# Altium footprint library NewSpeedRadar_Board.PcbLib: 49 footprints (part 2 of 4)
Each footprint in its own frame and in the unit in brackets; x right, y up, seen from the top. Pads: shape width x height; smd on the part's side, far side on the other; paste and mask are expansions set on the pad; w line width, h text height; cw(c..) or ccw(c..) is an arc to the next point about the centre after c.
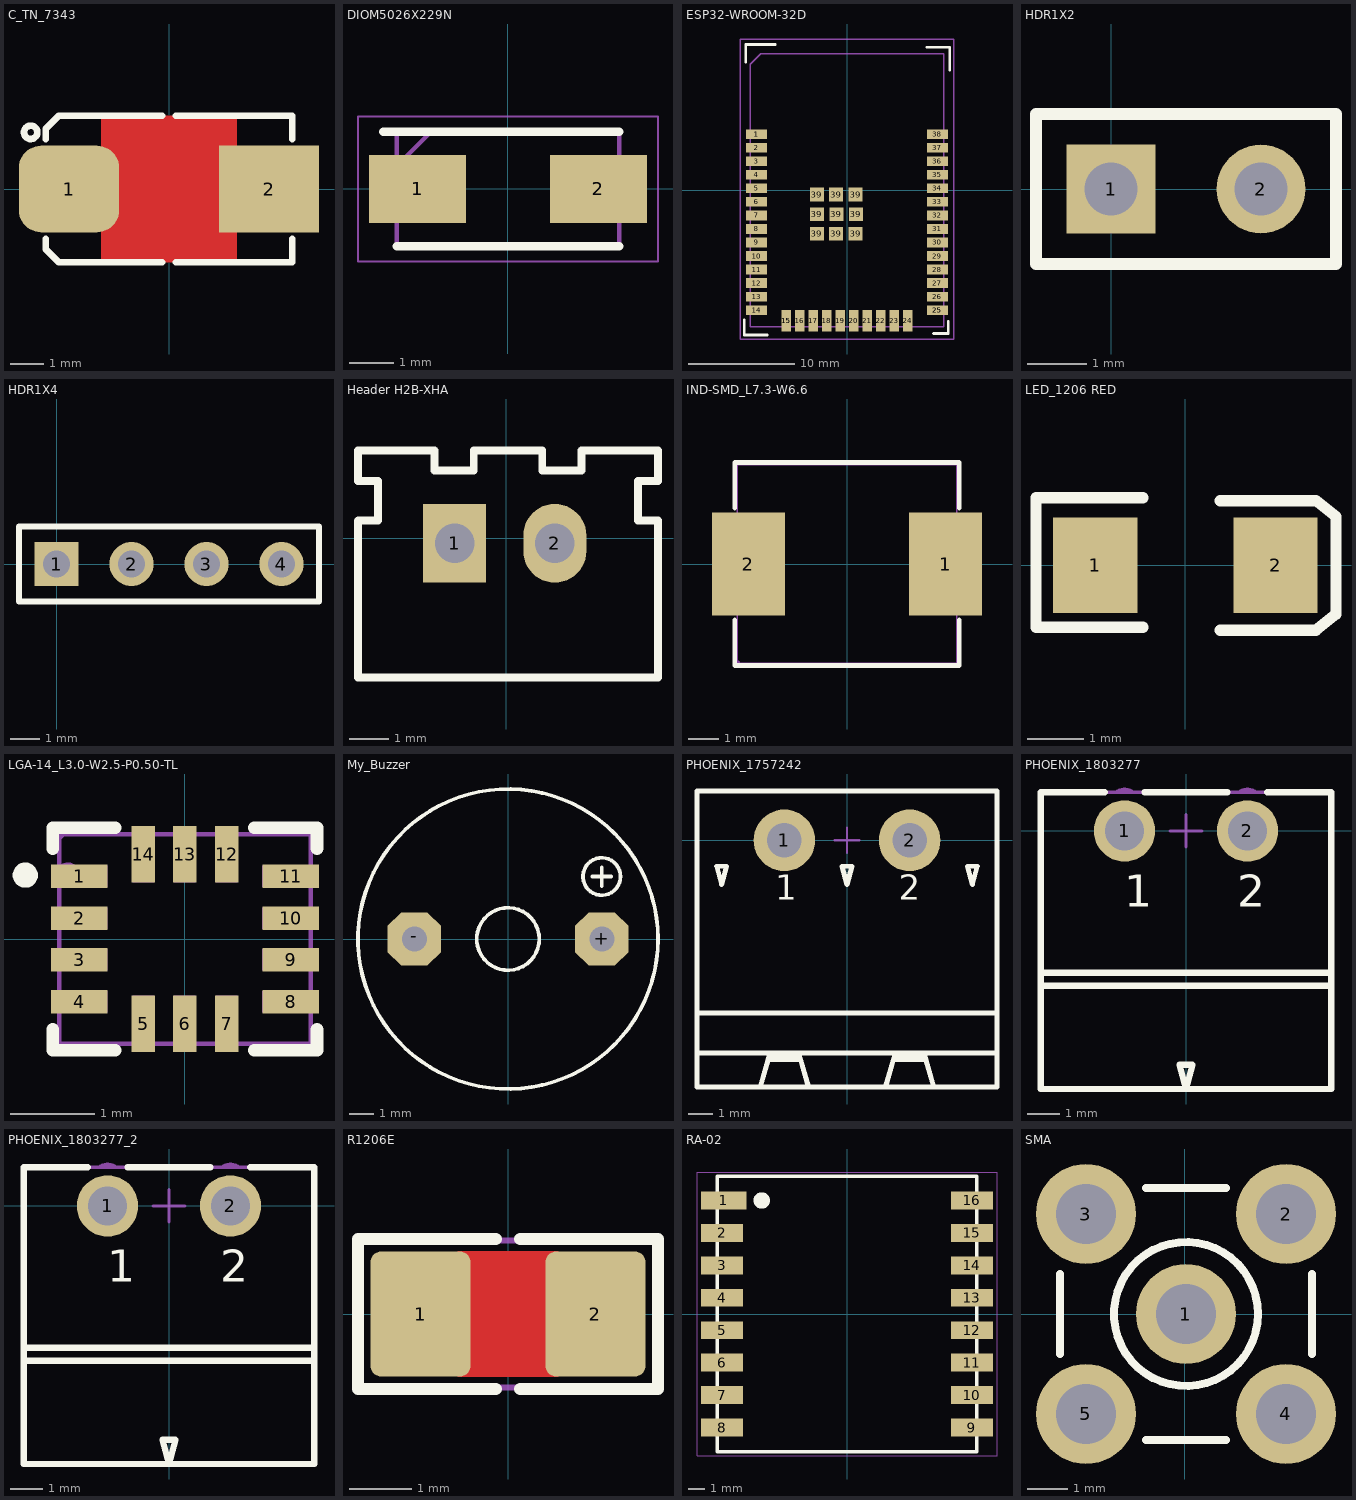
[diagram p1: the footprints below, top view; thin cyan lines are the x and y axes]

## C_TN_7343 [mm] "CAPACITOR, TAN D, TAN E, TAN Y, TAN X, 7343P, 7.3X4.3mm"
height 4.3
pads (2):
  rrect50% 3x2.6 smd: 1(-3,0)
  rect 3x2.6 smd: 2(3,0)
Top Layer:
  pour cut-out: -2.032,2.2 -2.032,-2.2 2.032,-2.2 2.032,2.2
Top Overlay:
  circle w0.2: c-4.15,1.7 r0.2
  lines w0.2: -3.7,-1.5 -3.7,-1.8 -3.3,-2.2 -0.2,-2.2 ; -3.7,1.5 -3.7,1.8 -3.3,2.2 -0.2,2.2 ; 0.2,-2.2 3.7,-2.2 3.7,-1.5 ; 0.2,2.2 3.7,2.2 3.7,1.5
3D body "User Library-AVX_E_CASE.step": height 4.2, standoff 0, extent -3.7,-2.225 3.7,2.225

## DIOM5026X229N [mm]
height 1.1
pads (2):
  rect 2.2x1.55 smd: 1(-2.05,0) 2(2.05,0)
Top Overlay:
  lines w0.2: -2.825,1.298 2.52,1.298 ; -2.52,-1.298 2.52,-1.298
Mechanical 13:
  lines w0.1: -2.52,0.522 -1.745,1.298 ; -2.52,-1.298 -2.52,1.298 2.52,1.298 2.52,-1.298 -2.52,-1.298
Mechanical 15:
  lines w0.05: -3.4,-1.645 -3.4,1.645 3.4,1.645 3.4,-1.645 -3.4,-1.645
3D body "SMAJ24A.stp": height 2.29, standoff 0, extent -2.52,-1.298 2.52,1.298

## ESP32-WROOM-32D [mm]
height 3.2
pads (50):
  rect 2x0.9 smd: 1(-8.5,5.26) 1(-8.5,5.26) 2(-8.5,3.99) 3(-8.5,2.72) 4(-8.5,1.45) 5(-8.5,0.18) 6(-8.5,-1.09) 7(-8.5,-2.36) 8(-8.5,-3.63) 9(-8.5,-4.9) 10(-8.5,-6.17) 11(-8.5,-7.44) 12(-8.5,-8.71) 13(-8.5,-9.98) 14(-8.5,-11.25) 25(8.5,-11.25) 25(8.5,-11.25) 26(8.5,-9.98) 27(8.5,-8.71) 28(8.5,-7.44) 29(8.5,-6.17) 30(8.5,-4.9) 31(8.5,-3.63) 32(8.5,-2.36) 33(8.5,-1.09) 34(8.5,0.18) 35(8.5,1.45) 36(8.5,2.72) 37(8.5,3.99) 38(8.5,5.26)
  rect 0.9x2 smd: 15(-5.715,-12.25) 15(-5.715,-12.25) 16(-4.445,-12.25) 17(-3.175,-12.25) 18(-1.905,-12.25) 19(-0.635,-12.25) 20(0.635,-12.25) 21(1.905,-12.25) 22(3.175,-12.25) 23(4.445,-12.25) 24(5.715,-12.25)
  rect 1.3x1.3 smd: 39(-2.835,-4.075) 39(-2.835,-2.24) 39(-2.835,-0.405) 39(-1.03,-4.083) 39(-1.03,-0.397) 39(-1,-2.24) 39(0.805,-4.083) 39(0.805,-0.397) 39(0.835,-2.24)
Top Overlay:
  lines w0.254: -9.652,-12.192 -9.652,-13.589 -7.493,-13.589 ; -9.525,12.065 -9.525,13.716 -6.731,13.716 ; 7.493,13.462 9.652,13.462 9.652,11.303 ; 8.128,-13.462 9.525,-13.462 9.525,-12.319
Top Courtyard:
  lines w0.12: -10.033,-1.984 -10.033,-0.407 ; -10.033,-1.984 -10.033,-2.264 -10.033,-4.401 -10.033,-11.449 -10.033,-13.97 -9.1,-13.97 -6.734,-13.97 -6.683,-13.97 -3.147,-13.97 4.08,-13.97 7.616,-13.97 7.667,-13.97 10.033,-13.97 10.033,-5.46 10.033,5.487 10.033,8.955 10.033,10.292 10.033,12.827 10.033,14.224 7.843,14.224 3.853,14.224 -2.92,14.224 -7.703,14.224 -9.619,14.224 -10.033,14.224 -10.033,12.7 -10.033,1.778 -10.033,0.889 -10.033,0.648 -10.033,-0.14 -10.033,-0.407 ; -10.033,-1.984 -10.033,-0.407
Top Assembly:
  lines w0.12: -9.1,-12.8 -9.1,11.43 -9.1,11.855 -8.128,12.827 9.1,12.827 9.1,-12.8 -9.1,-12.8
  text ".designator" at -4.227,1.168 h1
3D body "ESP-32 .step": height 2.61, standoff -0.1, extent -8.95,-12.7 8.95,12.7

## HDR1X2 [mm] "Connector; Header; 2 Position"
pads (2):
  rect 1.5x1.5 hole 0.9: 1(0,0)
  round 1.5 hole 0.9: 2(2.54,0)
Top Overlay:
  lines w0.2: -1.27,-1.27 -1.27,1.27 3.81,1.27 3.81,-1.27 -1.27,-1.27

## HDR1X4 [mm] "Connector; Header; 4 Position"
height 6.8
pads (4):
  rect 1.5x1.5 hole 0.9: 1(0,0)
  round 1.5 hole 0.9: 2(2.54,0) 3(5.08,0) 4(7.62,0)
Top Overlay:
  lines w0.2: -1.27,-1.27 -1.27,1.27 8.89,1.27 8.89,-1.27 -1.27,-1.27

## Header H2B-XHA [mm]
height 1.524
pads (2):
  rect 1.6x2 hole 1: 1(-1.305,-0.125)
  oval 1.6x2 hole 1: 2(1.235,-0.125)
Top Overlay:
  lines w0.2: -3.25,1.45 -3.755,1.45 -3.755,2.225 -1.82,2.225 -1.82,1.72 -0.82,1.72 -0.82,2.225 0.915,2.225 0.915,1.72 1.915,1.72 1.915,2.225 3.85,2.225 3.85,1.45 3.345,1.45 3.345,0.45 3.85,0.45 3.85,-3.525 -3.755,-3.525 -3.755,0.445 -3.75,0.45 -3.245,0.45 -3.245,1.45
3D body "User Library-XH_Right.STEP": height 7, standoff -3.5, extent -4,-3.65 0.05,2.35
3D body "User Library-XH_Left.STEP": height 7, standoff -3.5, extent 0.05,-3.65 4.1,2.35

## IND-SMD_L7.3-W6.6 [mm] "Chip Inductor, EIA 1008, Metric 2520, Body 2.60mm L X 2.00mm W X 1.00mm H, IPC Medium Density"
height 1
pads (2):
  rect 2.424x3.42 smd: 1(3.278,0) 2(-3.278,0)
Top Overlay:
  lines w0.152: -3.726,-1.862 -3.726,-3.376 3.726,-3.376 3.726,-1.862 ; -3.726,1.862 -3.726,3.376 3.726,3.376 3.726,1.862
Mechanical 15:
  region: -3.56,-3.27 -3.56,-3.245 -3.595,-3.21 -3.645,-3.21 -3.68,-3.245 -3.68,-3.27 -3.68,-3.295 -3.645,-3.33 -3.595,-3.33 -3.56,-3.295 -3.56,-3.27
  region: -3.65,-1.5 -3.65,1.5 -2.15,1.5 -2.15,-1.5
  region: 3.65,-1.5 3.65,1.5 2.15,1.5 2.15,-1.5
  lines w0.051: -3.65,-3.3 -3.65,3.3 3.65,3.3 3.65,-3.3 -3.65,-3.3

## LED_1206 RED [mm]
height 2.38
pads (2):
  rect 1.5x1.7 smd: 1(-1.6,0) 2(1.6,0)
Top Overlay:
  lines w0.2: -0.755,-1.104 -2.655,-1.104 -2.655,1.196 -0.755,1.196 ; 0.62,-1.154 2.32,-1.154 2.675,-0.87 2.675,0.862 2.32,1.146 0.62,1.146
3D body: height 1.11, standoff -0.4, extent -1.6,-0.8 1.6,0.8

## LGA-14_L3.0-W2.5-P0.50-TL [mm]
pads (14):
  rect 0.675x0.28 smd: 1(-1.262,0.75) 2(-1.262,0.25) 3(-1.262,-0.25) 4(-1.262,-0.75) 8(1.262,-0.75) 9(1.262,-0.25) 10(1.262,0.25) 11(1.262,0.75)
  rect 0.28x0.675 smd: 5(-0.5,-1.012) 6(0,-1.012) 7(0.5,-1.012) 12(0.5,1.012) 13(0,1.012) 14(-0.5,1.012)
Top Overlay:
  circle w0.15: c-1.905,0.762 r0.075
  lines w0.152: -1.576,-1.08 -1.576,-1.326 -0.831,-1.326 ; -1.576,1.08 -1.576,1.326 -0.831,1.326 ; 0.83,-1.326 1.576,-1.326 1.576,-1.08 ; 0.83,1.326 1.576,1.326 1.576,1.08
Mechanical 6:
  circle w0.15: c-1.397,0.762 r0.075
Mechanical 15:
  region: -1.44,1.25 -1.44,1.225 -1.475,1.19 -1.525,1.19 -1.56,1.225 -1.56,1.25 -1.56,1.275 -1.525,1.31 -1.475,1.31 -1.44,1.275 -1.44,1.25
  region: -0.625,1.15 -0.375,1.15 -0.375,0.675 -0.625,0.675
  region: -0.125,1.15 0.125,1.15 0.125,0.675 -0.125,0.675
  region: 0.375,1.15 0.625,1.15 0.625,0.675 0.375,0.675
  region: 0.925,0.875 1.4,0.875 1.4,0.625 0.925,0.625
  region: 0.925,0.375 1.4,0.375 1.4,0.125 0.925,0.125
  region: 0.925,-0.125 1.4,-0.125 1.4,-0.375 0.925,-0.375
  region: 0.925,-0.625 1.4,-0.625 1.4,-0.875 0.925,-0.875
  region: 0.375,-0.675 0.625,-0.675 0.625,-1.15 0.375,-1.15
  region: -0.125,-0.675 0.125,-0.675 0.125,-1.15 -0.125,-1.15
  region: -0.625,-0.675 -0.375,-0.675 -0.375,-1.15 -0.625,-1.15
  region: -1.4,-0.625 -0.925,-0.625 -0.925,-0.875 -1.4,-0.875
  region: -1.4,-0.125 -0.925,-0.125 -0.925,-0.375 -1.4,-0.375
  region: -1.4,0.375 -0.925,0.375 -0.925,0.125 -1.4,0.125
  region: -1.4,0.875 -0.925,0.875 -0.925,0.625 -1.4,0.625
  lines w0.051: -1.5,-1.25 1.5,-1.25 1.5,1.25 -1.5,1.25 -1.5,-1.25

## My_Buzzer [mil]
height 354.33
pads (2):
  oct 85x85 hole 40: +(150,0) -(-150,0)
Top Overlay:
  circle w6: c0,0 r240
  circle w6: c0,0 r50
  circle w6: c150,100 r30
  lines w6: 135,100 165,100 ; 150,85 150,115

## PHOENIX_1757242 [mm] "PHOENIX MSTBA Serie, Pitch 5.08mm, 12A, 250V, 2 Positions Header"
height 8.6
pads (2):
  round 2.5 hole 1.4: 1(-2.54,0) 2(2.54,0)
Top Overlay:
  lines w0.2: -6.08,-8.626 6.08,-8.626 ; -6.08,-7 6.08,-7 ; -3.515,-10 -3.145,-8.7 -1.935,-8.7 -1.565,-10 ; -3.196,-8.88 -1.884,-8.88 ; -2.785,-8.7 -2.772,-8.75 -2.308,-8.75 -2.295,-8.7 ; 1.565,-10 1.935,-8.7 3.145,-8.7 3.515,-10 ; 1.884,-8.88 3.196,-8.88 ; 2.295,-8.7 2.308,-8.75 2.772,-8.75 2.785,-8.7 ; -6.08,-10 -6.08,2 6.08,2 6.08,-10 -6.08,-10 ; -5.281,-1.05 -4.879,-1.05 -5.08,-1.8 -5.281,-1.05 ; -0.201,-1.05 0.201,-1.05 0,-1.8 -0.201,-1.05 ; 4.879,-1.05 5.281,-1.05 5.08,-1.8 4.879,-1.05
  text "1" at -2.9,-2.4 h1
  text "2" at 2.1,-2.4 h1
Mechanical 8:
  lines w0.1: -3.04,0 -2.54,0 ; -2.54,-0.5 -2.54,0 ; -2.54,0.5 -2.54,0 ; -2.04,0 -2.54,0 ; -0.5,0 0,0 ; 0,-0.5 0,0 ; 0,0.5 0,0 ; 0.5,0 0,0 ; 2.04,0 2.54,0 ; 2.54,-0.5 2.54,0 ; 2.54,0.5 2.54,0 ; 3.04,0 2.54,0
Top Assembly:
  lines w0.1: -6.08,-8.626 6.08,-8.626 ; -6.08,-7 6.08,-7 ; -3.515,-10 -3.145,-8.7 -1.935,-8.7 -1.565,-10 ; -3.196,-8.88 -1.884,-8.88 ; -2.785,-8.7 -2.772,-8.75 -2.308,-8.75 -2.295,-8.7 ; 1.565,-10 1.935,-8.7 3.145,-8.7 3.515,-10 ; 1.884,-8.88 3.196,-8.88 ; 2.295,-8.7 2.308,-8.75 2.772,-8.75 2.785,-8.7 ; -6.08,-10 -6.08,2 6.08,2 6.08,-10 -6.08,-10 ; -5.281,-1.05 -4.879,-1.05 -5.08,-1.8 -5.281,-1.05 ; -0.201,-1.05 0.201,-1.05 0,-1.8 -0.201,-1.05 ; 4.879,-1.05 5.281,-1.05 5.08,-1.8 4.879,-1.05
3D body "PHOENIX_1757242.stp": height 8.6, standoff -3, extent -6.08,-10 6.08,2.002

## PHOENIX_1803277 [mm] "PHOENIX MC Serie, Pitch 3.81mm, 8A, 160V, 2 Positions Right Angled Header"
height 7.25
pads (2):
  round 1.9 hole 1.2: 1(-1.905,0) 2(1.905,0)
Top Overlay:
  lines w0.2: -4.505,-4.8 4.505,-4.8 ; -4.505,-4.4 4.505,-4.4 ; -2.523,1.2 -4.505,1.2 -4.505,-8 4.505,-8 4.505,1.2 2.523,1.2 ; -1.287,1.2 1.287,1.2 ; -0.201,-7.25 0.2,-7.25 0,-8 -0.201,-7.25
  text "2" at 1.589,-2.35 h1
  text "1" at -1.921,-2.35 h1
Mechanical 8:
  lines w0.1: -2.405,0 -1.905,0 ; -1.905,-0.5 -1.905,0 ; -1.905,0.5 -1.905,0 ; -1.405,0 -1.905,0 ; -0.5,0 0,0 ; 0,-0.5 0,0 ; 0,0.5 0,0 ; 0.5,0 0,0 ; 1.405,0 1.905,0 ; 1.905,-0.5 1.905,0 ; 1.905,0.5 1.905,0 ; 2.405,0 1.905,0
Top Assembly:
  lines w0.1: -4.505,-4.8 4.505,-4.8 ; -4.505,-4.4 4.505,-4.4 ; -2.17,1.2 cw(c-1.905,0.9) -1.64,1.2 ; 1.64,1.2 cw(c1.905,0.9) 2.17,1.2 ; -4.505,-8 4.505,-8 4.505,1.2 -4.505,1.2 -4.505,-8 ; -0.201,-7.25 0.2,-7.25 0,-8 -0.201,-7.25
3D body "PHOENIX_1803277.stp": height 7.25, standoff -3.4, extent -4.505,-8 4.505,1.3

## PHOENIX_1803277_2 [mm]
pads (2):
  round 1.9 hole 1.2: 1(-1.905,0) 2(1.905,0)
Top Overlay:
  lines w0.2: -4.505,-4.8 4.505,-4.8 ; -4.505,-4.4 4.505,-4.4 ; -2.523,1.2 -4.505,1.2 -4.505,-8 4.505,-8 4.505,1.2 2.523,1.2 ; -1.287,1.2 1.287,1.2 ; -0.201,-7.25 0.2,-7.25 0,-8 -0.201,-7.25
  text "2" at 1.589,-2.35 h1
  text "1" at -1.921,-2.35 h1
Mechanical 8:
  lines w0.1: -2.405,0 -1.905,0 ; -1.905,-0.5 -1.905,0 ; -1.905,0.5 -1.905,0 ; -1.405,0 -1.905,0 ; -0.5,0 0,0 ; 0,-0.5 0,0 ; 0,0.5 0,0 ; 0.5,0 0,0 ; 1.405,0 1.905,0 ; 1.905,-0.5 1.905,0 ; 1.905,0.5 1.905,0 ; 2.405,0 1.905,0
Top Assembly:
  lines w0.1: -4.505,-4.8 4.505,-4.8 ; -4.505,-4.4 4.505,-4.4 ; -2.17,1.2 cw(c-1.905,0.9) -1.64,1.2 ; 1.64,1.2 cw(c1.905,0.9) 2.17,1.2 ; -4.505,-8 4.505,-8 4.505,1.2 -4.505,1.2 -4.505,-8 ; -0.201,-7.25 0.2,-7.25 0,-8 -0.201,-7.25
3D body "PHOENIX_1803277.stp": height 7.25, standoff -3.4, extent -4.505,-8 4.505,1.3

## R1206E [mm] "CHIP RESISTOR 1/4 WATT, EXPANDED PAD"
height 2
pads (2):
  rrect20% 1.6x2 smd mask+0.075: 1(-1.4,0) 2(1.4,0)
Top Layer:
  pour cut-out: -0.8,1 -0.8,-1 0.8,-1 0.8,1
Top Overlay:
  lines w0.2: -0.2,-1.2 -2.4,-1.2 -2.4,1.2 -0.2,1.2 ; 0.2,-1.2 2.4,-1.2 2.4,1.2 0.2,1.2
Mechanical 13:
  lines w0.1: -1.6,-0.8 1.6,-0.8 1.6,0.8 -1.6,0.8 -1.6,-0.8
Mechanical 15:
  lines w0.1: -0.5,0 0.5,0 ; 0,-0.5 0,0.5 ; -2.35,-1.175 2.35,-1.175 2.35,1.175 -2.35,1.175 -2.35,-1.175
3D body "User Library-RES_3216-1206.step": height 0.85, standoff 0, extent -1.675,-0.865 1.675,0.865

## RA-02 [mm]
height 6.8
pads (16):
  rect 2.8x1.1 smd: 1(-7.6,7)
  rect 2.6x1.1 smd: 2(-7.7,5) 3(-7.7,3) 4(-7.7,1) 5(-7.7,-1) 6(-7.7,-3) 7(-7.7,-5) 8(-7.7,-7) 9(7.7,-7) 10(7.7,-5) 11(7.7,-3) 12(7.7,-1) 13(7.7,1) 14(7.7,3) 15(7.7,5) 16(7.7,7)
Top Overlay:
  circle w0.813: c-5.258,7 r0.1
  lines w0.2: -8,-8.5 8,-8.5 8,8.5 -8,8.5 -8,-8.5
Mechanical 15:
  lines w0.05: -9.25,-8.75 -9.25,8.75 9.25,8.75 9.25,-8.75 -9.25,-8.75
3D body "RA-02--3DModel-STEP-269445.STEP": height 3.3, standoff 0, extent -8.5,-8.5 8.5,8.5

## SMA [mm]
pads (5):
  round 2.5 hole 1.5: 1(0.027,0) 2(2.527,2.5) 3(-2.473,2.5) 4(2.527,-2.5) 5(-2.473,-2.5)
Top Overlay:
  circle w0.2: c0.027,0 r1.8
  lines w0.2: -3.123,-1 -3.123,1 ; -0.973,-3.15 1.027,-3.15 ; -0.973,3.15 1.027,3.15 ; 3.177,-1 3.177,1
Mechanical 1:
  circle w0.025: c0.027,0 r0.2
  circle w0.025: c0.027,0 r1.05
  circle w0.025: c0.027,0 r1.8
3D body "User Library-Molex RP-SMA.STEP": height 9.6, standoff -3.87, extent -3.148,-3.175 3.202,3.175